# Altium footprint library DO-35.PcbLib: 1 footprints
Each footprint in its own frame and in the unit in brackets; x right, y up, seen from the top. Pads: shape width x height; smd on the part's side, far side on the other; paste and mask are expansions set on the pad; w line width, h text height; cw(c..) or ccw(c..) is an arc to the next point about the centre after c.
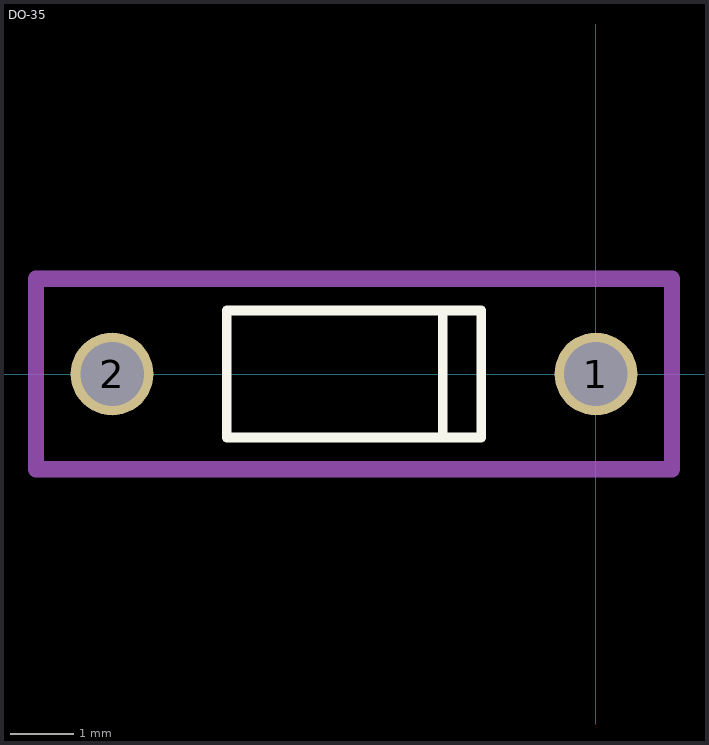
[diagram p0: the footprint, top view; thin cyan lines are the x and y axes]

## DO-35 [mm]
pads (2):
  round 1.3 hole 1: 1(0,0) 2(-7.62,0)
Top Overlay:
  lines w0.15: -2.413,-1 -2.413,1 ; -5.81,-1 -1.81,-1 -1.81,1 -5.81,1 -5.81,-1
Mechanical 15:
  lines w0.254: -8.82,-1.5 -8.82,1.5 1.2,1.5 1.2,-1.5 -8.82,-1.5
3D body "DO-35.step": height 2, standoff -2, extent -7.87,-1.01 0.25,1.01